# Altium footprint library Footprint.PcbLib: 155 footprints (part 4 of 10)
Each footprint in its own frame and in the unit in brackets; x right, y up, seen from the top. Pads: shape width x height; smd on the part's side, far side on the other; paste and mask are expansions set on the pad; w line width, h text height; cw(c..) or ccw(c..) is an arc to the next point about the centre after c.
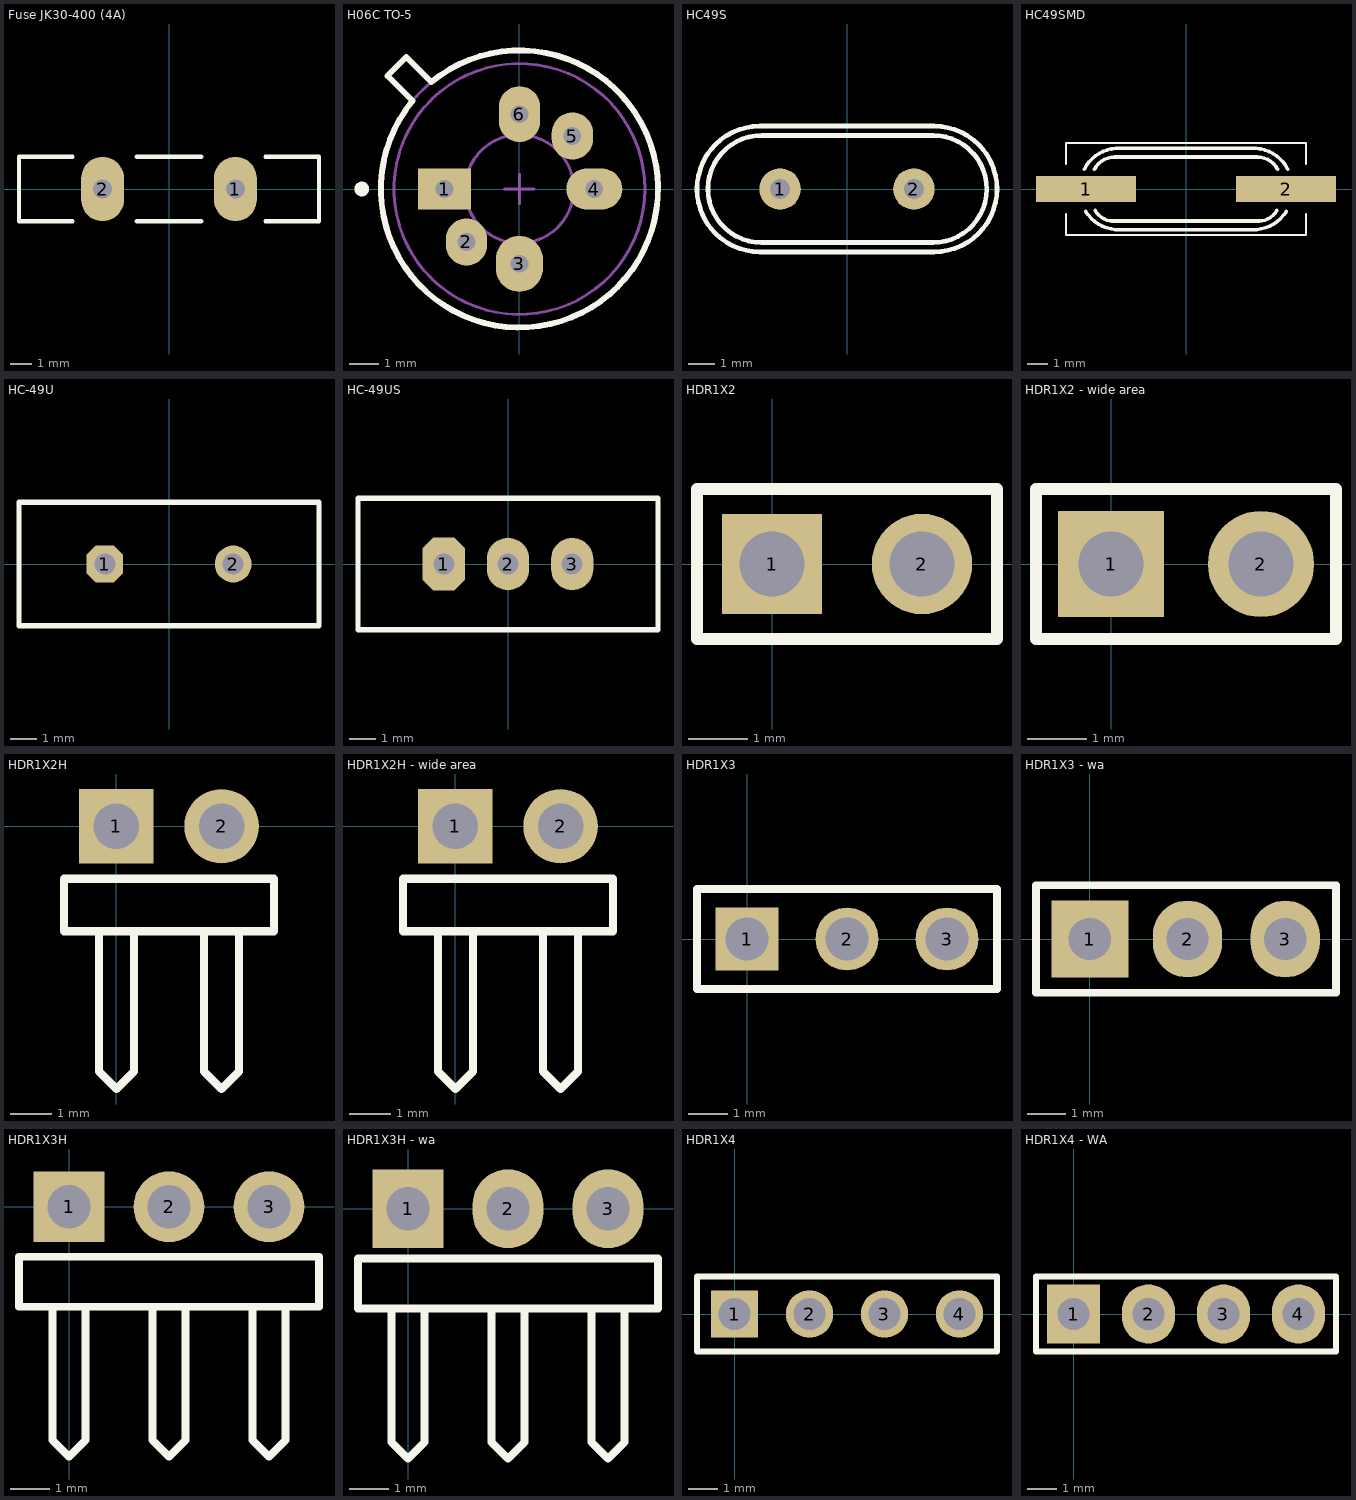
[diagram p3: the footprints below, top view; thin cyan lines are the x and y axes]

## Fuse JK30-400 (4A) [mm] "Самовосстанавливающийся предохранитель 4A"
pads (2):
  oval 2x3 hole 0.9: 1(3.1,0) 2(-3.1,0)
Top Overlay:
  lines w0.2: -4.5,-1.5 -7,-1.5 -7,1.5 -4.5,1.5 ; -1.5,-1.5 1.5,-1.5 ; -1.5,1.5 1.5,1.5 ; 4.5,-1.5 7,-1.5 7,1.5 4.5,1.5

## H06C TO-5 [mm] "Can; 8 Leads (2 Absent); Pin Circle Dia. 5.08 mm; Lead Dia. 0.48 mm (max)"
height 5.56
pads (6):
  rect 1.8x1.4 hole 0.6: 1(-2.54,0)
  oval 1.4x1.6 hole 0.6: 2(-1.796,-1.796) 5(1.796,1.796)
  oval 1.6x1.9 hole 0.6: 3(0,-2.54)
  oval 1.9x1.4 hole 0.6: 4(2.54,0)
  oval 1.4x1.9 hole 0.6: 6(0,2.54)
Top Overlay:
  circle w0.25: c-5.35,0 r0.125
  lines w0.2: -4.475,3.838 -3.838,4.475 -2.99,3.626 cw(c0,0) -3.626,2.99 -4.475,3.838
Mechanical 13:
  circle w0.1: c0,0 r1.84
  circle w0.1: c0,0 r4.7
  circle w0.1: c0,0 r4.255
Mechanical 15:
  lines w0.1: -0.5,0 0.5,0 ; 0,-0.5 0,0.5
3D body: height 1.91, standoff 0.38, extent -4.71,-4.71 4.71,4.71
3D body: height 5.56, standoff 1.91, extent -4.264,-4.264 4.264,4.264
3D body: height 0.38, standoff 0, extent -1.848,-1.848 1.848,1.848

## HC49S [mil]
height 78.74
pads (2):
  round 62 hole 30: 1(-100,0) 2(100,0)
Top Overlay:
  lines w7: 128.97,79.98 -127.41,79.98 ccw(c-127.67,-0.02) -128,-80.02 128.38,-80.02 ccw(c128.67,0.02) 129,80.02 ; 129.38,-94 -130.06,-94 cw(c-130.01,0) -130.02,94 129.42,94 ; 129.97,-94 ccw(c129.97,0) 130.01,94

## HC49SMD [mm]
height 2
pads (2):
  rect 5x1.3 smd: 1(-5,0) 2(5,0)
Top Overlay:
  lines w0.1: -6,-1.25 -6,-2.3 -4,-2.3 6,-2.3 6,-1.25 ; -6,1.25 -6,2.3 4,2.3 6,2.3 6,1.25
  lines w0.178: -5.082,0.991 cw(c-3.394,0.143) -3.299,2.029 ; -5.016,-1.11 ccw(c-3.394,-0.143) -3.299,-2.029 ; -4.584,0.991 cw(c-3.564,0.442) -3.564,1.6 ; -4.542,-1.069 ccw(c-3.652,-0.59) -3.652,-1.6 ; -3.7,-1.6 3.652,-1.6 ccw(c3.652,-0.59) 4.542,-1.069 ; -3.56,1.6 3.564,1.6 cw(c3.564,0.442) 4.584,0.991 ; -3.394,2.032 3.276,2.032 ; -3.332,-2.032 3.261,-2.032 ; 3.299,-2.029 ccw(c3.394,-0.143) 5.016,-1.11 ; 3.299,2.029 cw(c3.394,0.143) 5.082,0.991

## HC-49U [mm] "Quartz Crystal, Thru-Hole; 2 Leads; Body 11.35 x 4.65 x 13.46 mm (LxWxH max)"
height 13.46
pads (2):
  oct 1.4x1.4 hole 0.8: 1(-2.44,0)
  round 1.4 hole 0.8: 2(2.44,0)
Top Overlay:
  lines w0.2: -5.7,-2.35 -5.7,2.35 5.7,2.35 5.7,-2.35 -5.7,-2.35

## HC-49US [mm] "Quartz Crystal, Thru-Hole; 3 Leads; Body 11.35 x 5 x 3.5 mm (LxWxH max)"
height 3.5
pads (3):
  oct 1.6x2 hole 0.8: 1(-2.44,0)
  oval 1.6x2 hole 0.8: 2(0,0) 3(2.44,0)
Top Overlay:
  lines w0.2: -5.7,-2.5 -5.7,2.5 5.7,2.5 5.7,-2.5 -5.7,-2.5

## HDR1X2 [mm] "Connector; Header; 2 Position"
pads (2):
  rect 1.7x1.7 hole 1.1: 1(0,0)
  round 1.7 hole 1.1: 2(2.54,0)
Top Overlay:
  lines w0.2: -1.27,-1.27 -1.27,1.27 3.81,1.27 3.81,-1.27 -1.27,-1.27

## HDR1X2 - wide area [mm] "Connector; Header; 2 Position"
pads (2):
  rect 1.8x1.8 hole 1.1: 1(0,0)
  round 1.8 hole 1.1: 2(2.54,0)
Top Overlay:
  lines w0.2: -1.27,-1.27 3.81,-1.27 3.81,1.27 -1.27,1.27 -1.27,-1.27

## HDR1X2H [mm] "Connector; Header; 2 Position; Right Angle"
pads (2):
  rect 1.8x1.8 hole 1.1: 1(0,0)
  round 1.8 hole 1.1: 2(2.54,0)
Top Overlay:
  lines w0.2: -0.423,-2.54 -0.423,-5.927 0,-6.35 0.423,-5.927 0.423,-2.54 ; 2.117,-2.54 2.117,-5.927 2.54,-6.35 2.963,-5.927 2.963,-2.54 ; -1.27,-2.54 3.81,-2.54 3.81,-1.27 -1.27,-1.27 -1.27,-2.54

## HDR1X2H - wide area [mm] "Connector; Header; 2 Position; Right Angle"
pads (2):
  rect 1.8x1.8 hole 1.1: 1(0,0)
  round 1.8 hole 1.1: 2(2.54,0)
Top Overlay:
  lines w0.2: -0.423,-2.54 -0.423,-5.927 0,-6.35 0.423,-5.927 0.423,-2.54 ; 2.117,-2.54 2.117,-5.927 2.54,-6.35 2.963,-5.927 2.963,-2.54 ; -1.27,-2.54 -1.27,-1.27 3.81,-1.27 3.81,-2.54 -1.27,-2.54

## HDR1X3 [mm] "Connector; Header; 3 Position"
pads (3):
  rect 1.6x1.6 hole 1.1: 1(0,0)
  round 1.6 hole 1.1: 2(2.54,0) 3(5.08,0)
Top Overlay:
  lines w0.2: -1.27,-1.27 6.35,-1.27 6.35,1.27 -1.27,1.27 -1.27,-1.27

## HDR1X3 - wa [mm] "Connector; Header; 3 Position"
pads (3):
  rect 2x2 hole 1.1: 1(0,0)
  oval 1.8x2 hole 1.1: 2(2.54,0) 3(5.08,0)
Top Overlay:
  lines w0.2: -1.4,-1.4 -1.4,1.4 6.4,1.4 6.4,-1.4 -1.4,-1.4

## HDR1X3H [mm] "Connector; Header; 3 Position; Right Angle"
pads (3):
  rect 1.8x1.8 hole 1.1: 1(0,0)
  round 1.8 hole 1.1: 2(2.54,0) 3(5.08,0)
Top Overlay:
  lines w0.2: -0.423,-2.54 -0.423,-5.927 0,-6.35 0.423,-5.927 0.423,-2.54 ; 2.117,-2.54 2.117,-5.927 2.54,-6.35 2.963,-5.927 2.963,-2.54 ; 4.657,-2.54 4.657,-5.927 5.08,-6.35 5.503,-5.927 5.503,-2.54 ; -1.27,-2.54 6.35,-2.54 6.35,-1.27 -1.27,-1.27 -1.27,-2.54

## HDR1X3H - wa [mm] "Connector; Header; 3 Position; Right Angle"
pads (3):
  rect 1.8x2 hole 1.1: 1(0,0)
  oval 1.8x2 hole 1.1: 2(2.54,0) 3(5.08,0)
Top Overlay:
  lines w0.2: -0.423,-2.54 -0.423,-5.927 0,-6.35 0.423,-5.927 0.423,-2.54 ; 2.117,-2.54 2.117,-5.927 2.54,-6.35 2.963,-5.927 2.963,-2.54 ; 4.657,-2.54 4.657,-5.927 5.08,-6.35 5.503,-5.927 5.503,-2.54 ; -1.27,-2.54 6.35,-2.54 6.35,-1.27 -1.27,-1.27 -1.27,-2.54

## HDR1X4 [mm] "Разъем двухрядный, шаг 2,54 мм."
pads (4):
  rect 1.6x1.6 hole 1.1: 1(0,0)
  round 1.6 hole 1.1: 2(2.54,0) 3(5.08,0) 4(7.62,0)
Top Overlay:
  lines w0.2: -1.27,-1.27 -1.27,1.27 8.89,1.27 8.89,-1.27 -1.27,-1.27

## HDR1X4 - WA [mm] "Разъем двухрядный, шаг 2,54 мм."
pads (4):
  rect 1.8x2 hole 1.1: 1(0,0)
  oval 1.8x2 hole 1.1: 2(2.54,0) 3(5.08,0) 4(7.62,0)
Top Overlay:
  lines w0.2: -1.27,-1.27 8.89,-1.27 8.89,1.27 -1.27,1.27 -1.27,-1.27